# Altium schematic symbol library LR12K4-G.SchLib: 1 symbol
Pins are listed as number, name and electrical type; pins without a type are passive.

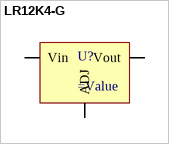
[diagram p0: symbol LR12K4-G]

## LR12K4-G
designator U?
pins: 1 Vin, 2 ADJ, 3 Vout